# EAGLE library part MOLEX_MICRO_SIM (library eric_personal_parts)
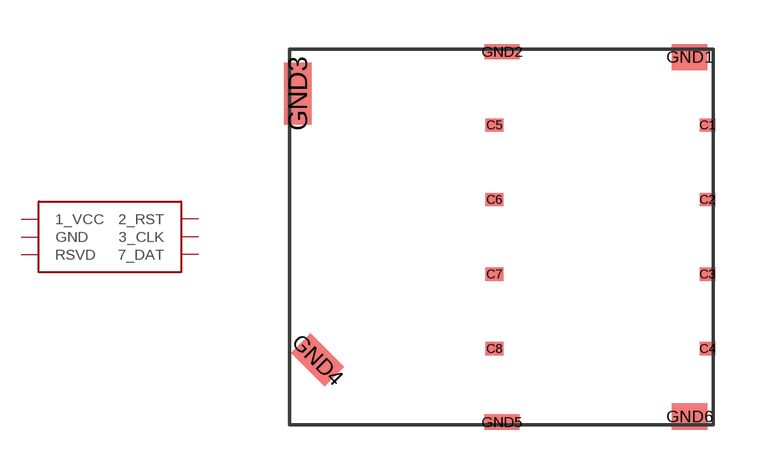
[diagram p3: symbol with the pads of MOLEX_MICRO_SIM; footprint MOLEX_MICRO_SIM]

Designator prefix -

## MOLEX_MICRO_SIM  [MOLEX_MICRO_SIM]
C1  1_VCC
C2  2_RST
C3  3_CLK
C4  RSVD
C5  GND
C6  RSVD
C7  7_DAT
C8  RSVD
GND1  GND
GND2  GND
GND3  GND
GND4  GND
GND5  GND
GND6  GND

## Footprint MOLEX_MICRO_SIM (pad centres in mm)
smd 0.54 x 0.45: C1 14.23,10.21; C2 14.23,7.67; C3 14.23,5.13; C4 14.23,2.59
smd 0.6 x 0.45: C5 6.97,10.21; C6 6.97,7.67; C7 6.97,5.13; C8 6.97,2.59
smd 1.2 x 0.89: GND1 13.62,12.525; GND6 13.62,0.275
smd 1.2 x 0.52: GND2 7.23,12.71; GND5 7.23,0.09
smd 0.94 x 2.1: GND3 0.27,11.28
smd 1.6 x 0.94 rotated 135: GND4 0.95,2.21